# Altium footprint library 2021-04-19_10-34-43.PcbLib: 3 footprints
Each footprint in its own frame and in the unit in brackets; x right, y up, seen from the top. Pads: shape width x height; smd on the part's side, far side on the other; paste and mask are expansions set on the pad; w line width, h text height; cw(c..) or ccw(c..) is an arc to the next point about the centre after c.
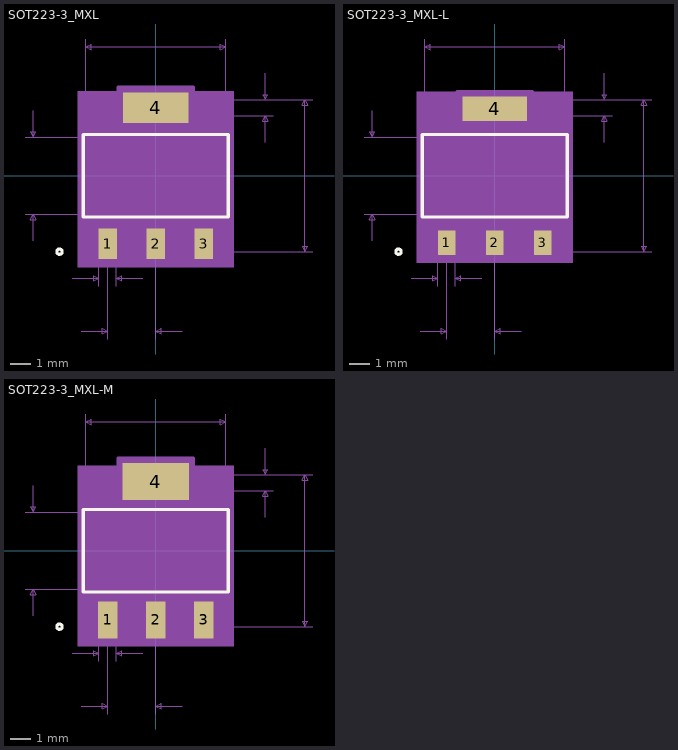
[diagram p0: the footprints below, top view; thin cyan lines are the x and y axes]

## SOT223-3_MXL [mil]
pads (4):
  rect 35x58 smd paste+0 mask+0: 1(-91,-128.5) 2(0,-128.5) 3(91,-128.5)
  rect 124x58 smd paste+0 mask+0: 4(0,128.5)
Top Overlay:
  circle w6: c-182,-143.5 r5
  lines w6: -137,-78 -137,78 137,78 137,-78 -137,-78
Mechanical 5:
  region: -147,159.5 147,159.5 147,-172.5 -147,-172.5
Mechanical 7:
  lines w1: -247,-73 0,-73 ; -247,73 0,73 ; -232,-123 -232,-73 ; -232,123 -232,73 ; -157.5,-193.5 -107.5,-193.5 ; -141,-293.5 -91,-293.5 ; -132,73 -132,258.5 ; -107.5,-208.5 -107.5,-143.5 ; -91,-308.5 -91,-143.5 ; -74.5,-208.5 -74.5,-143.5 ; -24.5,-193.5 -74.5,-193.5 ; 0,-308.5 0,-143.5 297,-143.5 ; 0,113.5 222,113.5 ; 50,-293.5 0,-293.5 ; 132,73 132,258.5 ; 207,63.5 207,113.5 ; 207,193.5 207,143.5 ; 222,143.5 0,143.5 297,143.5 ; -232,-73 -227,-83 -237,-83 -232,-73 ; -232,73 -227,83 -237,83 -232,73 ; -132,243.5 -122,238.5 -122,248.5 -132,243.5 ; -132,243.5 132,243.5 ; -107.5,-193.5 -117.5,-198.5 -117.5,-188.5 -107.5,-193.5 ; -91,-293.5 -101,-298.5 -101,-288.5 -91,-293.5 ; -74.5,-193.5 -64.5,-198.5 -64.5,-188.5 -74.5,-193.5 ; 0,-293.5 10,-298.5 10,-288.5 0,-293.5 ; 132,243.5 122,238.5 122,248.5 132,243.5 ; 207,113.5 212,103.5 202,103.5 207,113.5 ; 207,143.5 212,153.5 202,153.5 207,143.5 ; 282,-143.5 287,-133.5 277,-133.5 282,-143.5 ; 282,-143.5 282,143.5 ; 282,143.5 287,133.5 277,133.5 282,143.5
  text "0.146in/3.708mm" at -439.5,-12.5 h25
  text "0.264in/6.706mm" at -93.75,263.5 h25
  text "0.033in/0.838mm" at -184.75,-238.5 h25
  text "0.091in/2.311mm" at -139.25,-338.5 h25
  text "0.03in/0.762mm" at 227,116 h25
  text "0.287in/7.29mm" at 302,-12.5 h25
  text "Alt 2 Padstyle: OX90Y60D30P" at -337.5,-557.5 h50
  text "Alt 1 Padstyle: OX60Y90D30P" at -337.5,-507.5 h50
  text "Default Pin Padstyle: RX35Y58D0T" at -400,-457.5 h50
Mechanical 13:
  circle w0: c-122,-63 r5
  lines w1: -132,-73 -132,73 132,73 132,-73 -132,-73 ; -107.5,-143.5 -74.5,-143.5 -74.5,-73 -107.5,-73 -107.5,-143.5 ; -61,73 -61,143.5 61,143.5 61,73 -61,73 ; -16.5,-143.5 16.5,-143.5 16.5,-73 -16.5,-73 -16.5,-143.5 ; 74.5,-143.5 107.5,-143.5 107.5,-73 74.5,-73 74.5,-143.5
Mechanical 15:
  region: -142,-83 -142,83 -71,83 -71,167.5 71,167.5 71,83 142,83 142,-83 117.5,-83 117.5,-167.5 -117.5,-167.5 -117.5,-83
  lines w6: -142,-83 -117.5,-83 -117.5,-167.5 117.5,-167.5 117.5,-83 142,-83 142,83 71,83 71,167.5 -71,167.5 -71,83 -142,83 -142,-83
3D body: height 10, standoff 0, extent 0,0 10,10

## SOT223-3_MXL-L [mil]
pads (4):
  rect 33x46 smd paste+0 mask+0: 1(-91,-126.5) 2(0,-126.5) 3(91,-126.5)
  rect 122x46 smd paste+0 mask+0: 4(0,126.5)
Top Overlay:
  circle w6: c-182,-143.5 r5
  lines w6: -137,-78 -137,78 137,78 137,-78 -137,-78
Mechanical 5:
  region: -147,158.5 147,158.5 147,-164.5 -147,-164.5
Mechanical 7:
  lines w1: -247,-73 0,-73 ; -247,73 0,73 ; -232,-123 -232,-73 ; -232,123 -232,73 ; -157.5,-193.5 -107.5,-193.5 ; -141,-293.5 -91,-293.5 ; -132,73 -132,258.5 ; -107.5,-208.5 -107.5,-143.5 ; -91,-308.5 -91,-143.5 ; -74.5,-208.5 -74.5,-143.5 ; -24.5,-193.5 -74.5,-193.5 ; 0,-308.5 0,-143.5 297,-143.5 ; 0,113.5 222,113.5 ; 50,-293.5 0,-293.5 ; 132,73 132,258.5 ; 207,63.5 207,113.5 ; 207,193.5 207,143.5 ; 222,143.5 0,143.5 297,143.5 ; -232,-73 -227,-83 -237,-83 -232,-73 ; -232,73 -227,83 -237,83 -232,73 ; -132,243.5 -122,238.5 -122,248.5 -132,243.5 ; -132,243.5 132,243.5 ; -107.5,-193.5 -117.5,-198.5 -117.5,-188.5 -107.5,-193.5 ; -91,-293.5 -101,-298.5 -101,-288.5 -91,-293.5 ; -74.5,-193.5 -64.5,-198.5 -64.5,-188.5 -74.5,-193.5 ; 0,-293.5 10,-298.5 10,-288.5 0,-293.5 ; 132,243.5 122,238.5 122,248.5 132,243.5 ; 207,113.5 212,103.5 202,103.5 207,113.5 ; 207,143.5 212,153.5 202,153.5 207,143.5 ; 282,-143.5 287,-133.5 277,-133.5 282,-143.5 ; 282,-143.5 282,143.5 ; 282,143.5 287,133.5 277,133.5 282,143.5
  text "0.146in/3.708mm" at -439.5,-12.5 h25
  text "0.264in/6.706mm" at -93.75,263.5 h25
  text "0.033in/0.838mm" at -184.75,-238.5 h25
  text "0.091in/2.311mm" at -139.25,-338.5 h25
  text "0.03in/0.762mm" at 227,116 h25
  text "0.287in/7.29mm" at 302,-12.5 h25
  text "Alt 2 Padstyle: OX90Y60D30P" at -337.5,-549.5 h50
  text "Alt 1 Padstyle: OX60Y90D30P" at -337.5,-499.5 h50
  text "Default Pin Padstyle: RX33Y46D0T" at -400,-449.5 h50
Mechanical 13:
  circle w0: c-122,-63 r5
  lines w1: -132,-73 -132,73 132,73 132,-73 -132,-73 ; -107.5,-143.5 -74.5,-143.5 -74.5,-73 -107.5,-73 -107.5,-143.5 ; -61,73 -61,143.5 61,143.5 61,73 -61,73 ; -16.5,-143.5 16.5,-143.5 16.5,-73 -16.5,-73 -16.5,-143.5 ; 74.5,-143.5 107.5,-143.5 107.5,-73 74.5,-73 74.5,-143.5
Mechanical 15:
  region: -142,-83 -142,83 -71,83 -71,159.5 71,159.5 71,83 142,83 142,-83 117.5,-83 117.5,-159.5 -117.5,-159.5 -117.5,-83
  lines w6: -142,-83 -117.5,-83 -117.5,-159.5 117.5,-159.5 117.5,-83 142,-83 142,83 71,83 71,159.5 -71,159.5 -71,83 -142,83 -142,-83
3D body: height 10, standoff 0, extent 0,0 10,10

## SOT223-3_MXL-M [mil]
pads (4):
  rect 37x70 smd paste+0 mask+0: 1(-91,-130.5) 2(0,-130.5) 3(91,-130.5)
  rect 126x70 smd paste+0 mask+0: 4(0,130.5)
Top Overlay:
  circle w6: c-182,-143.5 r5
  lines w6: -137,-78 137,-78 137,78 -137,78 -137,-78
Mechanical 5:
  region: -147,160.5 147,160.5 147,-180.5 -147,-180.5
Mechanical 7:
  lines w1: -247,-73 0,-73 ; -247,73 0,73 ; -232,-123 -232,-73 ; -232,123 -232,73 ; -157.5,-193.5 -107.5,-193.5 ; -141,-293.5 -91,-293.5 ; -132,73 -132,258.5 ; -107.5,-208.5 -107.5,-143.5 ; -91,-308.5 -91,-143.5 ; -74.5,-208.5 -74.5,-143.5 ; -24.5,-193.5 -74.5,-193.5 ; 0,-308.5 0,-143.5 297,-143.5 ; 0,113.5 222,113.5 ; 50,-293.5 0,-293.5 ; 132,73 132,258.5 ; 207,63.5 207,113.5 ; 207,193.5 207,143.5 ; 222,143.5 0,143.5 297,143.5 ; -232,-73 -237,-83 -227,-83 -232,-73 ; -232,73 -237,83 -227,83 -232,73 ; -132,243.5 132,243.5 ; -132,243.5 -122,248.5 -122,238.5 -132,243.5 ; -107.5,-193.5 -117.5,-188.5 -117.5,-198.5 -107.5,-193.5 ; -91,-293.5 -101,-288.5 -101,-298.5 -91,-293.5 ; -74.5,-193.5 -64.5,-188.5 -64.5,-198.5 -74.5,-193.5 ; 0,-293.5 10,-288.5 10,-298.5 0,-293.5 ; 132,243.5 122,248.5 122,238.5 132,243.5 ; 207,113.5 202,103.5 212,103.5 207,113.5 ; 207,143.5 202,153.5 212,153.5 207,143.5 ; 282,-143.5 282,143.5 ; 282,-143.5 277,-133.5 287,-133.5 282,-143.5 ; 282,143.5 277,133.5 287,133.5 282,143.5
  text "Default Pin Padstyle: RX37Y70D0T" at -400,-465.5 h50
  text "Alt 1 Padstyle: OX60Y90D30P" at -337.5,-515.5 h50
  text "Alt 2 Padstyle: OX90Y60D30P" at -337.5,-565.5 h50
  text "0.287in/7.29mm" at 302,-12.5 h25
  text "0.03in/0.762mm" at 227,116 h25
  text "0.091in/2.311mm" at -139.25,-338.5 h25
  text "0.033in/0.838mm" at -184.75,-238.5 h25
  text "0.264in/6.706mm" at -93.75,263.5 h25
  text "0.146in/3.708mm" at -439.5,-12.5 h25
Mechanical 13:
  circle w0: c-122,-63 r5
  lines w1: -132,-73 132,-73 132,73 -132,73 -132,-73 ; -107.5,-143.5 -107.5,-73 -74.5,-73 -74.5,-143.5 -107.5,-143.5 ; -61,73 61,73 61,143.5 -61,143.5 -61,73 ; -16.5,-143.5 -16.5,-73 16.5,-73 16.5,-143.5 -16.5,-143.5 ; 74.5,-143.5 74.5,-73 107.5,-73 107.5,-143.5 74.5,-143.5
Mechanical 15:
  region: -142,-83 -142,83 -71,83 -71,175.5 71,175.5 71,83 142,83 142,-83 117.5,-83 117.5,-175.5 -117.5,-175.5 -117.5,-83
  lines w6: -142,-83 -142,83 -71,83 -71,175.5 71,175.5 71,83 142,83 142,-83 117.5,-83 117.5,-175.5 -117.5,-175.5 -117.5,-83 -142,-83
3D body: height 10, standoff 0, extent 0,0 10,10